# Altium footprint library HM-05_06_07_11.PcbLib: 1 footprints
Each footprint in its own frame and in the unit in brackets; x right, y up, seen from the top. Pads: shape width x height; smd on the part's side, far side on the other; paste and mask are expansions set on the pad; w line width, h text height; cw(c..) or ccw(c..) is an arc to the next point about the centre after c.
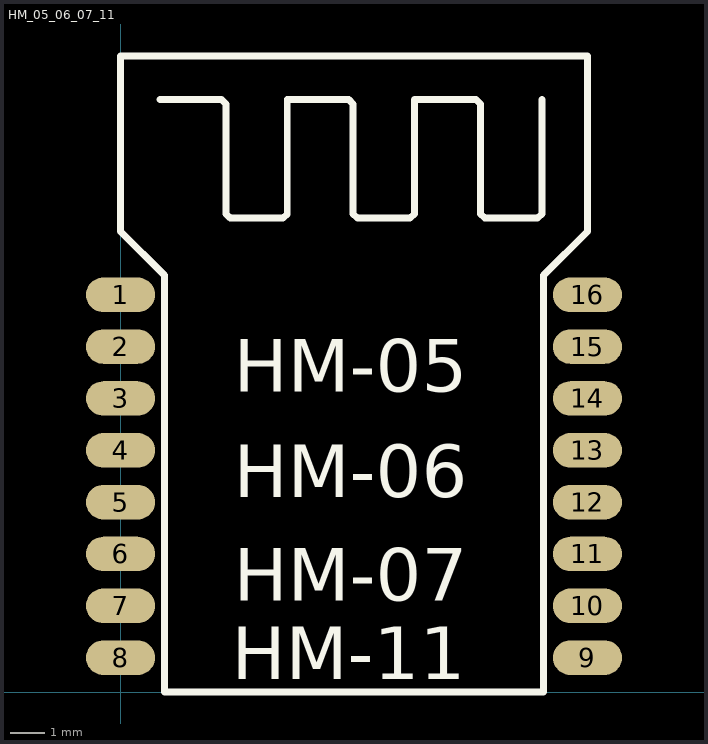
[diagram p0: the footprint, top view; thin cyan lines are the x and y axes]

## HM_05_06_07_11 [mm] "www.jnhuamao.cn"
pads (16):
  oval 2x1 smd: 1(0,11.5) 2(0,10) 3(0,8.5) 4(0,7) 5(0,5.5) 6(0,4) 7(0,2.5) 8(0,1) 9(13.513,1) 10(13.513,2.5) 11(13.513,4) 12(13.513,5.5) 13(13.513,7) 14(13.513,8.5) 15(13.513,10) 16(13.513,11.5)
Top Overlay:
  lines w0.2: 1.143,17.145 2.921,17.145 3.048,17.018 3.048,13.843 3.175,13.716 4.699,13.716 4.826,13.843 4.826,17.145 6.604,17.145 6.731,17.018 6.731,13.843 6.858,13.716 8.382,13.716 8.509,13.843 8.509,17.145 10.287,17.145 10.414,17.018 10.414,13.843 10.541,13.716 12.065,13.716 12.192,13.843 12.192,17.145 ; 0,13.335 0,18.415 13.513,18.415 13.513,13.335 12.243,12.065 12.243,0 1.27,0 1.27,12.065 0,13.335
  text "HM-07" at 3.277,2.642 h1.52
  text "HM-06" at 3.277,5.639 h1.52
  text "HM-05" at 3.277,8.687 h1.52
  text "HM-11" at 3.226,0.381 h1.52